# EAGLE library part SM06B-SSR-H-TB (library con-jst)
Disconnectable Insulation displacement connector, 1.0mm pitch 6 contacts
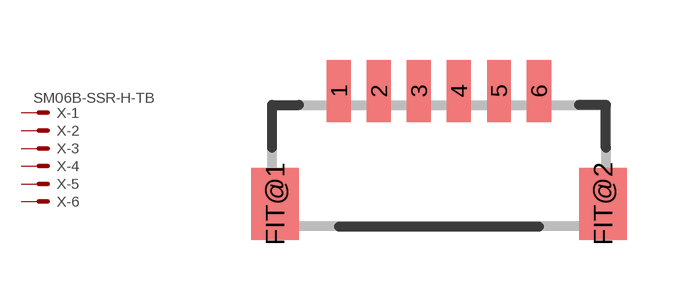
[diagram p33: symbol with the pads of SM06B-SSR-H-TB; footprint SM06B-SSR-H-TB]

Designator prefix X; gates -1=KV -2=K -3=K -4=K -5=K -6=K

## SM06B-SSR-H-TB  [SM06B-SSR-H-TB]
1  -1:S  pas
2  -2:S  pas
3  -3:S  pas
4  -4:S  pas
5  -5:S  pas
6  -6:S  pas

## Footprint SM06B-SSR-H-TB (pad centres in mm)
Shrouded Header
smd 0.6 x 1.55: 1 -2.5,1.925; 2 -1.5,1.925; 3 -0.5,1.925; 4 0.5,1.925; 5 1.5,1.925; 6 2.5,1.925
smd 1.2 x 1.8: FIT@1 -4.1,-0.9; FIT@2 4.1,-0.9